# Altium schematic symbol library MC78M06CDTG.SchLib: 2 symbols
Pins are listed as number, name and electrical type; pins without a type are passive.

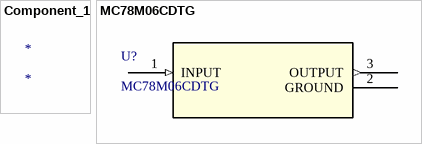
[diagram p0: symbols Component_1 to MC78M06CDTG]

## Component_1
designator *
footprint DPAK-3_ONS

## MC78M06CDTG
designator U?
No Description Available; Mfr_Name: onsemi; Copyright: Copyright (C) 2022 Ultra Librarian. All rights reserved.; Manufacturer_Part_Number: MC78M06CDTG; Digi-Key_Part_Number_1: MC78M06CDTGOS-ND; Digi-Key_Part_Number_2: 2156-MC78M06CDTG-OS-ND; RefDes: RefDes; Type: DEV
footprint DPAK-3_ONS
pins: 1 INPUT (in), 2 GROUND (power), 3 OUTPUT (out)